# EAGLE library part 692141030100 (library Eagle_WR-USB (rev25c))
WR-COM USB 3.0 Type A Stacked Kind Properties Durability:5 000 Mating cycles Quality Class:5 000 Mating cycles Connector Type:USB Gender:Receptacle Type:Stacked Horizontal General Information Operating Temperature:-40up to +85 °C Compliance:RoHS Electrical Properties IR 1:1.8A Working Voltage:30V (AC) Withstanding Voltage:100V (AC) Contact Resistance:50 mΩ Material Properties Insulator Material:LCP Insulator Flammability Rating:UL94 V-0 Color:Blue Contact Material:Phosphor Bronze Contact Plating:Matte Tin over Nickel Contact Type:Stamped Shielding Material:Brass Shielding Material:Matte Tin <https://www.we-online.com/catalog/media/o33031v209%20Family_WR-COM_692141030100.jpg> Details see: https://www.we-online.com/catalog/en/COM_3_0_TYPE_A_STACKED/ Updated by Yingchun, Shan 2020-01-16 2020 (C) Würth Elektronik
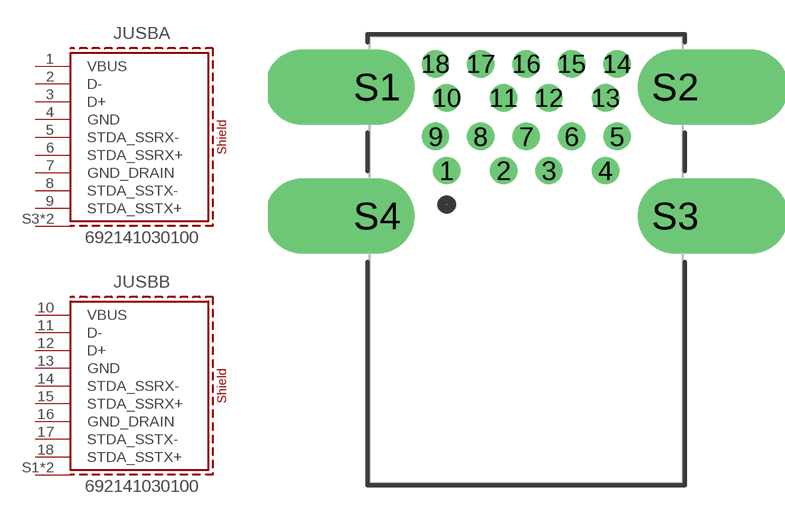
[diagram p0: symbol with the pads of 692141030100; footprint 692141030100]

Designator prefix J; gates USBA=USB3_TYPEA USBB=USB3_TYPEA

## 692141030100 (APPLICATION: USB 3.0; DATASHEET-URL: https://www.we-online.com/redexpert/spec/692141030100?ae; GERDER: Receptacle; INTERFACE-TYPE: Type A; IR: 1.8A; MOUNT: THT; PACKAGING: Tray; PART-NUMBER: 692141030100; PINS: 18pcs; TYPE: Stacked Horizontal; VALUE: 692141030100; WORKING-VOLTAGE: 30VAC)  [692141030100]
1  USBA:VBUS  pas
2  USBA:D-  pas
3  USBA:D+  pas
4  USBA:GND  pas
5  USBA:STDA_SSRX-  pas
6  USBA:STDA_SSRX+  pas
7  USBA:GND_DRAIN  pas
8  USBA:STDA_SSTX-  pas
9  USBA:STDA_SSTX+  pas
10  USBB:VBUS  pas
11  USBB:D-  pas
12  USBB:D+  pas
13  USBB:GND  pas
14  USBB:STDA_SSRX-  pas
15  USBB:STDA_SSRX+  pas
16  USBB:GND_DRAIN  pas
17  USBB:STDA_SSTX-  pas
18  USBB:STDA_SSTX+  pas
S1  USBB:SHIELD  pas
S2  USBB:SHIELD  pas
S3  USBA:SHIELD  pas
S4  USBA:SHIELD  pas

## Footprint 692141030100 (pad centres in mm)
WR-COM USB 3.0 STACKED TYPE A
drill 0.7: 1 -3.5,3.93; 2 -1,3.93; 3 1,3.93; 4 3.5,3.93; 5 4,5.43; 6 2,5.43; 7 0,5.43; 8 -2,5.43; 9 -4,5.43; 10 -3.5,7.13; 11 -1,7.13; 12 1,7.13; 13 3.5,7.13; 14 4,8.63; 15 2,8.63; 16 0,8.63; 17 -2,8.63; 18 -4,8.63
drill 2.3 offset: S1 -6.57,7.61; S2 6.57,7.61; S3 6.57,1.93; S4 -6.57,1.93